# Altium footprint library Display.PcbLib: 1 footprints
Each footprint in its own frame and in the unit in brackets; x right, y up, seen from the top. Pads: shape width x height; smd on the part's side, far side on the other; paste and mask are expansions set on the pad; w line width, h text height; cw(c..) or ccw(c..) is an arc to the next point about the centre after c.
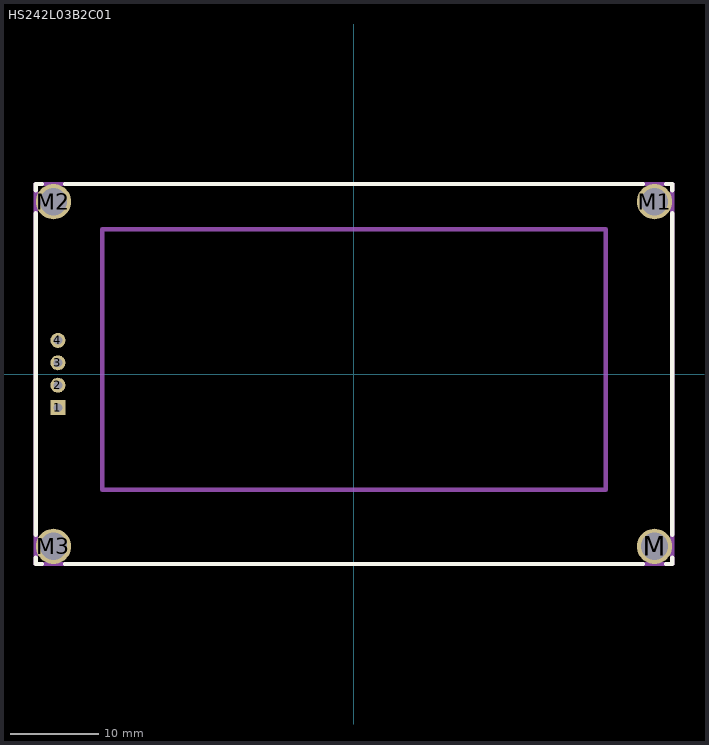
[diagram p0: the footprint, top view; thin cyan lines are the x and y axes]

## HS242L03B2C01 [mm]
pads (8):
  rect 1.7x1.7 hole 1: 1(-33.5,-3.81)
  round 1.7 hole 1: 2(-33.5,-1.27) 3(-33.5,1.27) 4(-33.5,3.81)
  round 4 hole 3.1: M(34,-19.5) M1(34,19.5) M2(-34,19.5) M3(-34,-19.5)
Top Overlay:
  lines w0.5: -36,-20.8 -36,-21.5 -35.3,-21.5 ; -36,-18.2 -36,18.2 ; -36,20.8 -36,21.5 -35.3,21.5 ; -32.7,-21.5 32.7,-21.5 ; -32.7,21.5 32.7,21.5 ; 35.3,-21.5 36,-21.5 36,-20.8 ; 35.3,21.5 36,21.5 36,20.8 ; 36,-18.2 36,18.2
Top Assembly:
  lines w0.5: -36,-21.5 36,-21.5 36,21.5 -36,21.5 -36,-21.5 ; -28.5,-13.1 28.5,-13.1 28.5,16.4 -28.5,16.4 -28.5,-13.1
3D body: height 5.28, standoff 2.68, extent -31.1,-20.55 31,19.4
3D body: height 5.2, standoff 2.68, extent -28.5,-13.1 28.5,16.4
3D body: height 2.69, standoff 1.07, extent -34.4,-4.7 -32.6,-2.9
3D body: height 2.69, standoff 1.07, extent -34.4,-2.18 -32.6,-0.38
3D body: height 2.69, standoff 1.07, extent -34.4,0.37 -32.6,2.17
3D body: height 2.69, standoff 1.07, extent -34.4,2.9 -32.6,4.7
3D body: height 2.69, standoff 1.07, extent -36,17.5 -32,21.5
3D body: height 2.69, standoff 1.07, extent -36,-21.5 -32,-17.5
3D body: height 2.69, standoff 1.07, extent 32,-21.5 36,-17.5
3D body: height 2.69, standoff 1.07, extent 32,17.5 36,21.5
3D body: height 2.68, standoff 1.08, extent -36,-21.5 36,21.5